# Altium footprint library FID.PcbLib: 1 footprints
Each footprint in its own frame and in the unit in brackets; x right, y up, seen from the top. Pads: shape width x height; smd on the part's side, far side on the other; paste and mask are expansions set on the pad; w line width, h text height; cw(c..) or ccw(c..) is an arc to the next point about the centre after c.
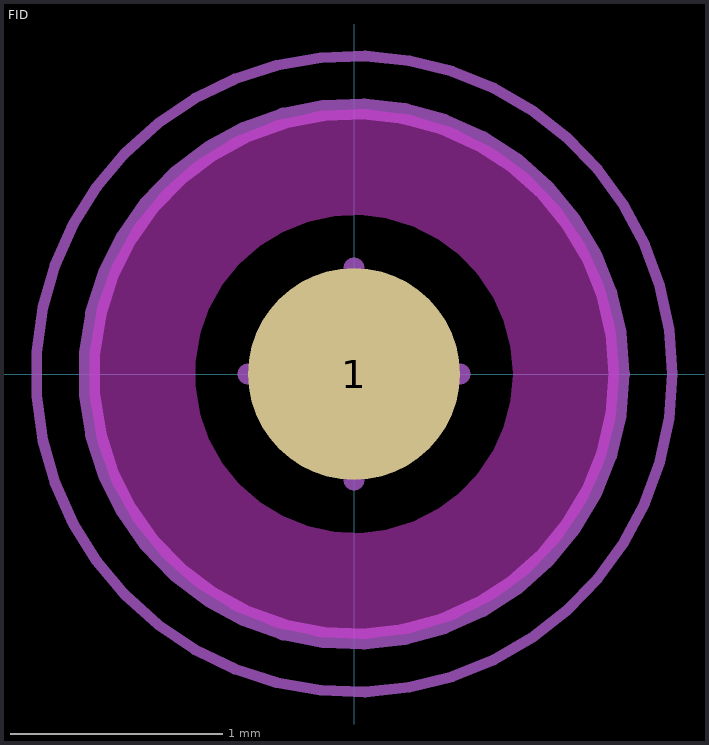
[diagram p0: the footprint, top view; thin cyan lines are the x and y axes]

## FID [mm]
pads (1):
  round 1 smd paste-2539.97 mask+0.75: 1(0,0)
Keep-Out Layer:
  circle w0.5: c0,0 r1
Mechanical 1:
  circle w0.1: c0,0 r1.25
  text ".Designator" at -0.875,-0.408 h0.65
Mechanical 2:
  circle w0.05: c0,0 r1.5
  lines w0.1: -0.5,0 0.5,0 ; 0,-0.5 0,0.5